# Altium footprint library Zener.PcbLib: 3 footprints
Each footprint in its own frame and in the unit in brackets; x right, y up, seen from the top. Pads: shape width x height; smd on the part's side, far side on the other; paste and mask are expansions set on the pad; w line width, h text height; cw(c..) or ccw(c..) is an arc to the next point about the centre after c.
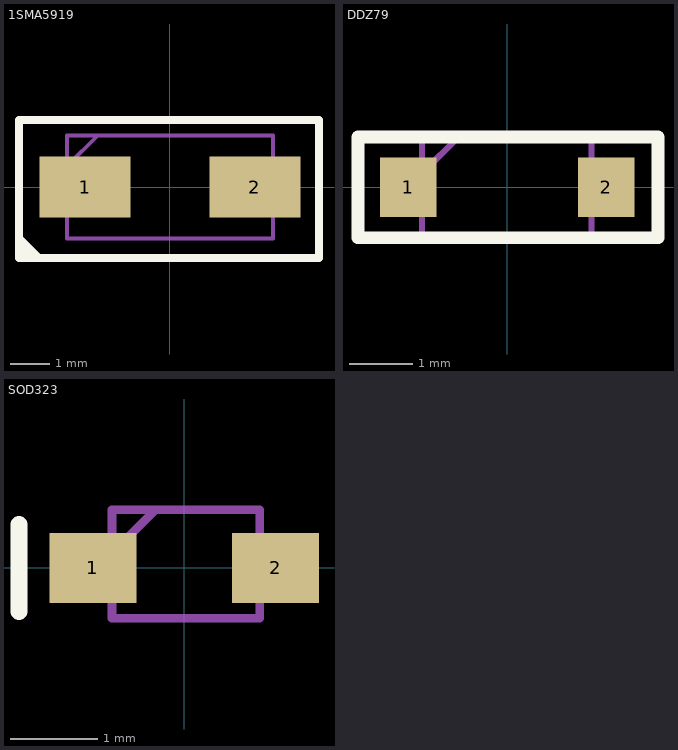
[diagram p0: the footprints below, top view; thin cyan lines are the x and y axes]

## 1SMA5919 [mm] "DIODE ZENER 1.5W SMA"
pads (2):
  rect 2.3x1.55 smd: 1(-2.15,0) 2(2.15,0)
Top Overlay:
  lines w0.2: -3.825,-1.3 -3.325,-1.8 -3.125,-1.8 ; -3.789,-1.49 -3.788,-1.49 -3.628,-1.649 -3.628,-1.747 -3.651,-1.725 -3.715,-1.725 ; -3.825,-1.8 3.775,-1.8 3.775,1.7 -3.825,1.7 -3.825,-1.8
Mechanical 13:
  lines w0.1: -2.605,0.528 -1.83,1.302 ; -2.605,-1.302 -2.605,1.302 2.605,1.302 2.605,-1.302 -2.605,-1.302
3D body "1SMA5919BT3G.stp": height 2.2, standoff 0, extent -2.605,-1.302 2.605,1.303

## DDZ79 [mm]
pads (2):
  rect 0.9x0.95 smd: 1(-1.575,0) 2(1.575,0)
Top Overlay:
  lines w0.2: -2.375,-0.8 2.4,-0.8 2.4,0.8 -2.375,0.8 -2.375,-0.8
Mechanical 13:
  lines w0.1: -1.357,0.22 -0.757,0.82 ; -1.357,-0.8 -1.357,0.82 1.343,0.82 1.343,-0.8 -1.357,-0.8
Mechanical 15:
  lines w0.05: -2.375,-0.875 2.4,-0.875 2.4,0.8 -2.375,0.8 -2.375,-0.875
3D body "DDZ9684-7.stp": height 1.13, standoff 0.13, extent -1.9,-0.915 1.8,0.865

## SOD323 [mm] "SOD-323"
pads (2):
  rect 1x0.8 smd: 1(-1.05,0) 2(1.05,0)
Top Overlay:
  lines w0.2: -1.9,-0.5 -1.9,0.5
Mechanical 13:
  lines w0.1: -0.831,0.171 -0.331,0.671 ; -0.831,-0.579 -0.831,0.671 0.869,0.671 0.869,-0.579 -0.831,-0.579
3D body "SOD-323.STEP": height 1.17, standoff 0.02, extent -1.35,-0.723 1.35,0.723